# EAGLE library part TPS54231 (library bqevm_additional_ti_ics)
According to: http://www.ti.com/lit/ds/symlink/tps54231.pdf
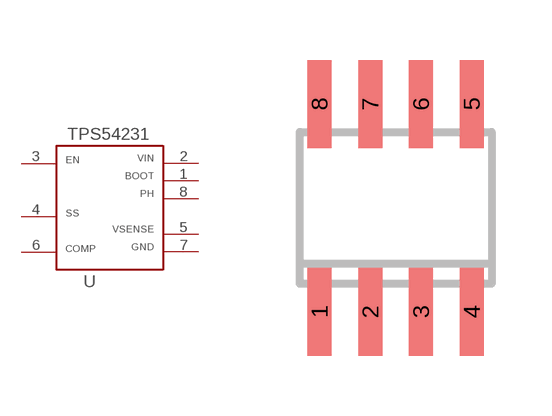
[diagram p2: symbol with the pads of SO8; footprint SO8]

Designator prefix U

## TPS54231SO8  [SO8]
1  1
2  2
3  3
4  4
5  5
6  6
7  7
8  8

## Footprint SO8 (pad centres in mm)
According to: http://www.ti.com/lit/ml/msoi002j/msoi002j.pdf
smd 0.6 x 2.2: 1 -1.905,-2.6; 2 -0.635,-2.6; 3 0.635,-2.6; 4 1.905,-2.6; 5 1.905,2.6; 6 0.635,2.6; 7 -0.635,2.6; 8 -1.905,2.6